# Altium schematic symbol library MinervaBots.SCHLIB: 191 symbols (part 2 of 2)
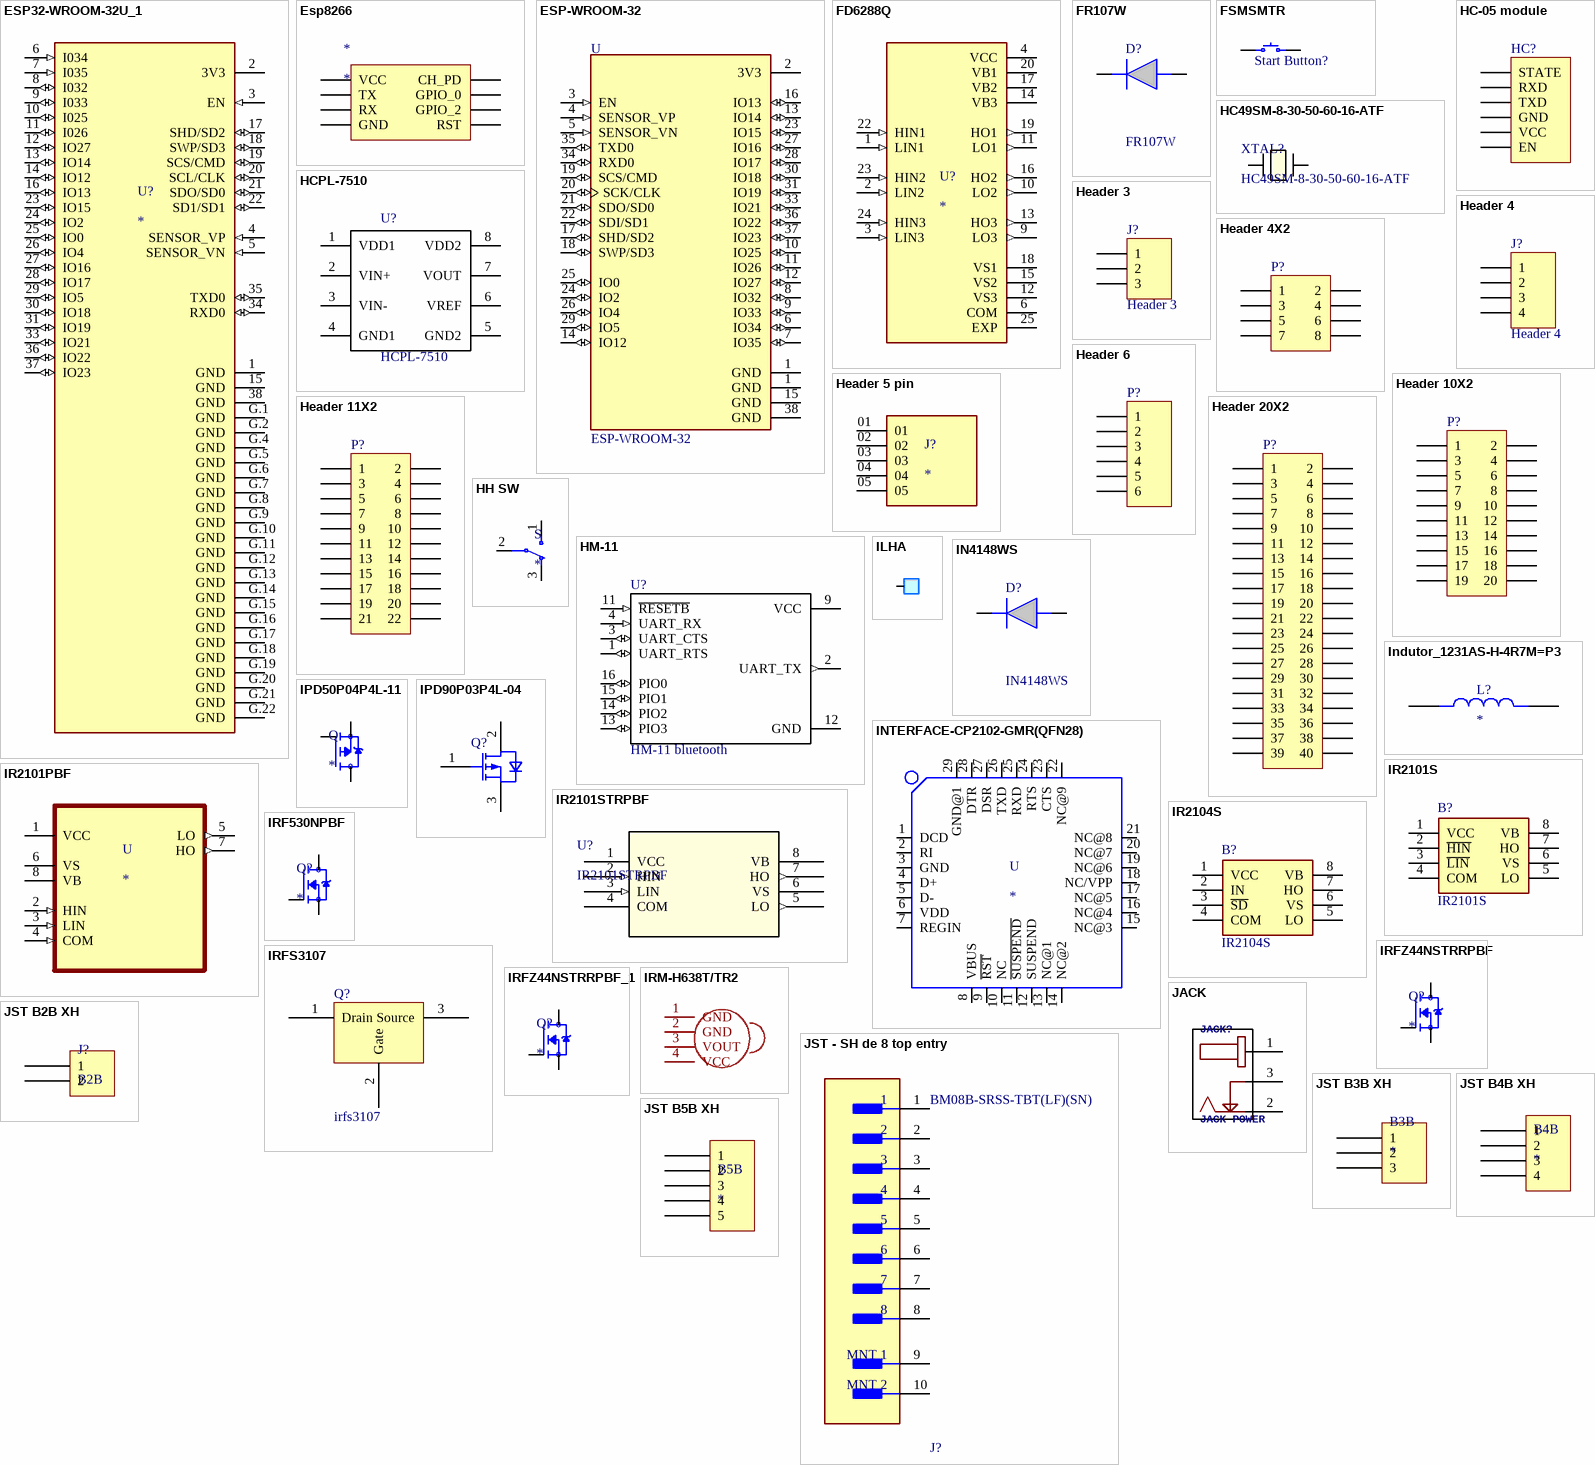
[diagram p7: symbols ESP32-WROOM-32U_1 to JST B5B XH]

## IPD50P04P4L-11
designator Q
P-Channel 40V 50A _Tc_ 58W _Tc_ Surface Mount PG-TO252-3-313; MF: Infineon Technologies; MP: IPD50P04P4L-11; Availability: Unavailable; SnapEDA_Link: https://www.snapeda.com/parts/IPD50P04P4L-11/Infineon%20Technologies/view-part/448110/?ref=snap; Value: *; Price: None; Package: TO-252-3 Infineon
footprint DPAK228P998X235-3N
pins: 1 G, 2 D, 3 S

## IPD90P03P4L-04
designator Q?  (value not drawn)
OptiMOS - P2 Power-Transistor, P-channel-Enhancement mode, VDS -30V; Manufacturer: Infineon Technologies; ManufacturerPartNumber: IPD90P03P4L-04; PackageReference: PG-TO252-3-11
footprint TO228P998X235-3N-2-V
pins: 1 GATE, 2 DRAIN, 3 SOURCE

## IR2101PBF
designator U
Floating channel designed for bootstrap operation | Fully operational to +600 V | Tolerant to negative transient voltage | dV/dt immune | Gate drive supply range from 10 to 20 V | Undervoltage lockout | 3.3 V, 5 V, and 15 V logic input compatible | Matched propagation delay for both channels | Outputs in phase with inputs _IR2101_ or out of phase with inputs _IR2102_; MF: Infineon; MP: IR2101PBF; Price: None; Availability: Unavailable; SnapEDA_Link: https://www.snapeda.com/parts/IR2101PBF/Infineon%20Technologies/view-part/576511/?ref=snap; Value: *; Package: DIP-8 Infineon
footprint DIP254P762X533-8
pins: 1 VCC (power), 2 HIN (in), 3 LIN (in), 4 COM (in), 5 LO (out), 6 VS (power), 7 HO (out), 8 VB (power)

## IR2101S
designator B?
IC GATE DRVR HALF-BRIDGE 8SOIC; Manufacturer_Name: Infineon; Geometry.Height: 1.75mm; Manufacturer_Part_Number: IR2101S; Mouser Part Number: *; Mouser Price/Stock: *; Arrow Part Number: *; Arrow Price/Stock: *; Datasheet Link: https://pdf1.alldatasheet.com/datasheet-pdf/view/102221/IRF/IR2101S.html
footprint SOIC127P600X175-8N
pins: 1 VCC, 2 ~{HIN}, 3 ~{LIN}, 4 COM, 5 LO, 6 VS, 7 HO, 8 VB

## IR2101STRPBF
designator U?
No Description Available; Mfr_Name: Infineon; Copyright: Copyright (C) 2024 Ultra Librarian. All rights reserved.; Manufacturer_Part_Number: IR2101STRPBF; RefDes: RefDes; Type: DEV
footprint SO8N_INF
pins: 1 VCC (power), 2 HIN (in), 3 LIN (in), 4 COM, 5 LO (out), 6 VS (power), 7 HO (out), 8 VB (power)

## IR2104S
designator B?
IC GATE DRVR HALF-BRIDGE 8SOIC; Manufacturer_Name: Infineon; Geometry.Height: 1.75mm; Manufacturer_Part_Number: IR2104S; Mouser Part Number: *; Mouser Price/Stock: *; Arrow Part Number: *; Arrow Price/Stock: *; Datasheet Link: http://www.infineon.com/dgdl/ir2104.pdf?fileId=5546d462533600a4015355c7c1c31671
footprint SOIC127P600X175-8N
pins: 1 VCC, 2 IN, 3 ~{SD}, 4 COM, 5 LO, 6 VS, 7 HO, 8 VB

## IRF530NPBF
designator Q?
RoHS Compliant | Low RDS(on) | Industry-leading quality | Dynamic dv/dt Rating | Fast Switching | Fully Avalanche Rated | 175C Operating Temperature; MF: Infineon Technologies; MP: IRF530NPBF; Purchase-URL: https://pricing.snapeda.com/search/part/IRF530NPBF/?ref=eda; Check_prices: https://www.snapeda.com/parts/IRF530NPBF/Infineon+Technologies/view-part/?ref=eda; SnapEDA_Link: https://www.snapeda.com/parts/IRF530NPBF/Infineon+Technologies/view-part/?ref=snap; Price: None; Availability: In Stock; Package: TO-220 Infineon; Value: *
footprint TO254P1041X444X1930-3 (Footprint not found)
pins: 1 G, 2 D, 3 S

## IRFS3107
designator Q?, comment irfs3107
MOSFET N-Channel
footprint D2PAK-7
pins: 1 Drain, 2 Gate, 3 Source

## IRFZ44NSTRRPBF
designator Q?
RoHS Compliant | Low RDS(on) | Industry-leading quality | Dynamic dv/dt Rating | Fast Switching | Fully Avalanche Rated | 175C Operating Temperature; MF: Infineon Technologies; MP: IRFZ44NSTRRPBF; Value: *; SnapEDA_Link: https://www.snapeda.com/parts/IRFZ44NSTRRPBF/Infineon+Technologies/view-part/?ref=snap; Availability: In Stock; Price: None; Check_prices: https://www.snapeda.com/parts/IRFZ44NSTRRPBF/Infineon+Technologies/view-part/?ref=eda; Purchase-URL: https://pricing.snapeda.com/search/part/IRFZ44NSTRRPBF/?ref=eda; Package: D2PAK Infineon
footprint DPAK254P1524X483-3N
pins: 1 G, 2 D, 3 S

## IRFZ44NSTRRPBF_1
designator Q?
RoHS Compliant | Low RDS(on) | Industry-leading quality | Dynamic dv/dt Rating | Fast Switching | Fully Avalanche Rated | 175C Operating Temperature; MF: Infineon Technologies; MP: IRFZ44NSTRRPBF; Value: *; SnapEDA_Link: https://www.snapeda.com/parts/IRFZ44NSTRRPBF/Infineon+Technologies/view-part/?ref=snap; Availability: In Stock; Price: None; Check_prices: https://www.snapeda.com/parts/IRFZ44NSTRRPBF/Infineon+Technologies/view-part/?ref=eda; Purchase-URL: https://pricing.snapeda.com/search/part/IRFZ44NSTRRPBF/?ref=eda; Package: D2PAK Infineon
footprint DPAK254P1524X483-3N
pins: 1 G, 2 D, 3 S

## IRM-H638T/TR2
designator CGQ?  (value not drawn)
Manufacturer: EVERLIGHT(亿光); Add into BOM: yes; Supply Voltage: 2.7V~5.5V; Supply Current: 1.2mA; Symbol: IRM-H638T/TR2; Device: IRM-H638T/TR2; LCSC Part Name: 45°@水平 45°@垂直; Supplier Part: C91447; Manufacturer Part: IRM-H638T/TR2; Supplier Footprint: SMD-4P,4x5mm; JLCPCB Part Class: Extended Part; Datasheet: https://atta.szlcsc.com/upload/public/pdf/source/20161219/1482143954829.pdf; Supplier: LCSC; Convert to PCB: yes; Transmission Distance: -; Center Frequency: -; Half Angle: -; Power Consumption: -; Operating Temperature: -25℃~+85℃
footprint IRM-H638T
pins: 1 GND, 2 GND, 3 VOUT, 4 VCC

## JACK
designator JACK?, comment JACK POWER
DC Power Receptacle Jack 5A 2.5mm 6.5mm Through Hole AC/DC Power Plugs & Receptacles RoHS; GateName_1: G$1; SymbolName_1: DCJ200-10-A-XX-X_REVA; MP: DCJ200-10-A-K1-K; MF: Global Connector Technology; LibraryName: DCJ200-10-A-XX-X_REVA; DeviceSetName: DCJ200-10-A-XX-X_REVA; Package: GCT_DCJ200-10-A-XX-X_REVA; Package: None; Availability: Warning; Price: None
footprint Jack 5A XKB DC-005-5A-2.5
pins: 1, 2, 3

## JST - SH de 8 top entry
designator J?, comment BM08B-SRSS-TBT(LF)(SN)
CONN HEADER SMD 8POS 1MM
footprint FP-BM08B-SRSS-TBT_LF_SN-MFG
pins: 1, 2, 3, 4, 5, 6, 7, 8, 9 MNT 1, 10 MNT 2

## JST B2B XH
designator J?, comment B2B
JST Sales America Connector, B2B-XH-AM(LF)(SN), 2 ways, LCSC Part = C161869
footprint JST B2B XH THT (JST Conector, 2 ways)
pins: 1, 2

## JST B3B XH
designator B3B
JST Sales America Connector, B3B-XH-AM(LF)(SN), 3 ways, LCSC Part = C161870
footprint JST B3B XH THT (Jst conector, 3 ways)
pins: 1, 2, 3

## JST B4B XH
designator B4B
JST Sales America Connector, B4B-XH-AM(LF)(SN), 4 ways, LCSC Part = C161871
footprint JST B4B XH THT (JST Conector, 4 ways)
pins: 1, 2, 3, 4

## JST B5B XH
designator B5B
JST Sales America Connector, B5B-XH-AM(LF)(SN), 5 ways, LCSC Part = C161872
footprint JST B5B XH THT (KK Conector, 5 ways)
pins: 1, 2, 3, 4, 5

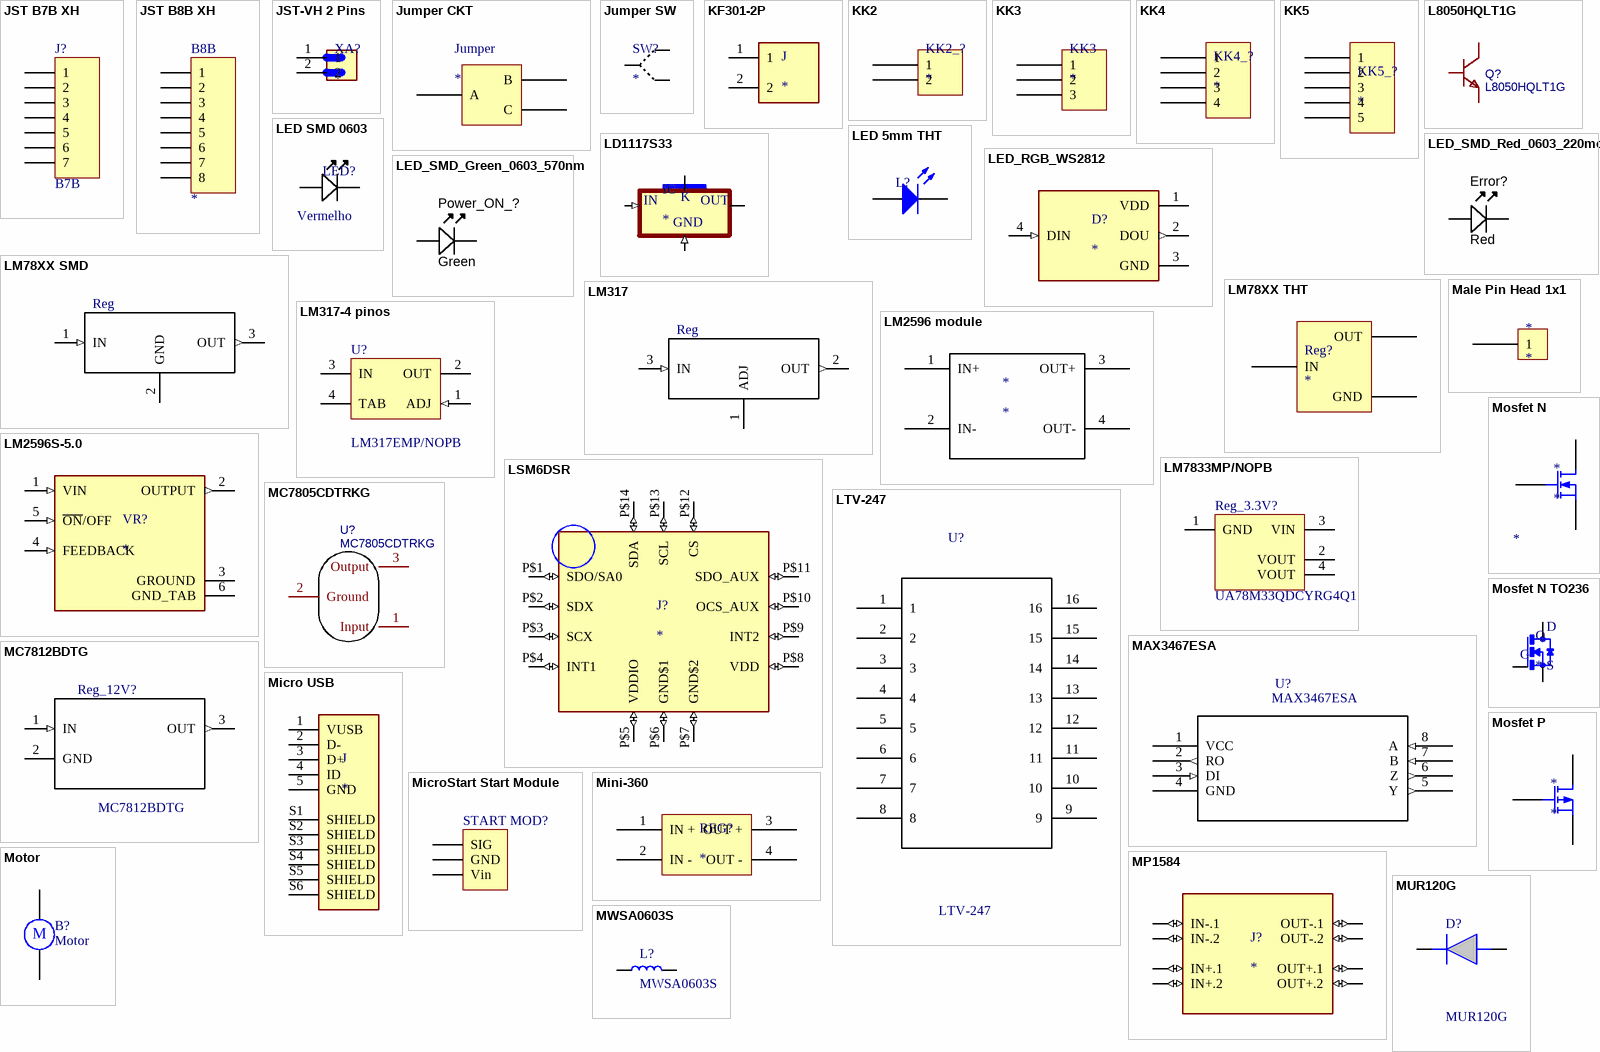
[diagram p4: symbols JST B7B XH to MWSA0603S]

## JST B7B XH
designator J?, comment B7B
JST Sales America Connector, B2B-XH-AM(LF)(SN), 7 ways, LCSC Part = C161874; LatestRevisionDate: 17-Jul-2002; LatestRevisionNote: Re-released for DXP Platform.; Publisher: Altium Limited
footprint JST B7B XH THT (Jst conector, 7 ways)
pins: 1, 2, 3, 4, 5, 6, 7

## JST B8B XH
designator B8B
JST Sales America Connector, B4B-XH-AM(LF)(SN), 4 ways, LCSC Part = C161875; LatestRevisionDate: 17-Jul-2002; LatestRevisionNote: Re-released for DXP Platform.; Publisher: Altium Limited
footprint JST B8B XH THT (JST conector, 8 ways)
pins: 1, 2, 3, 4, 5, 6, 7, 8

## JST-VH 2 Pins
designator XA?
Connector Header Through Hole 2 position 0.156 (3.96mm); MP: B2P-VH(LF)(SN); MF: JST Sales; Price: None; Availability: In Stock; Package: None; Value: *; SnapEDA_Link: https://www.snapeda.com/parts/B2P-VH(LF)(SN)/JST+Sales+America+Inc./view-part/?ref=snap; Purchase-URL: https://pricing.snapeda.com/search/part/B2P-VH(LF)(SN)/?ref=eda; Check_prices: https://www.snapeda.com/parts/B2P-VH(LF)(SN)/JST+Sales+America+Inc./view-part/?ref=eda
footprint JST_B2P-VH(LF)(SN)
footprint JST-VH 2 Pins
pins: 1, 2

## Jumper CKT
designator Jumper
Switch with jumper, 3 ways
footprint Jumper CKT
pins: 1 B, 2 A, 3 C

## Jumper SW
designator SW?
footprint Jumper SW
footprint Jumper CKT
pins: IN, OUT1, OUT2

## KF301-2P
designator J
2 Pin Terminal Block 5mm Pitch; MP: KF301-2P; MF: Handson Technology; Availability: Unavailable; Price: None; Value: *; SnapEDA_Link: https://www.snapeda.com/parts/KF301-2P/Handson%20Technology/view-part/4276957/?ref=snap; Package: Package
footprint HANDSON_KF301-2P
pins: 1, 2

## KK2
designator KK2_?
KK Connector, 2 ways
footprint KK2 (KK Conector, 2 ways)
pins: 1, 2

## KK3
designator KK3
KK Connector, 3 ways
footprint KK3 (KK Conector, 3 ways)
footprint KK3 90 (KK Conector, 3 ways, 90 degrees)
pins: 1, 2, 3

## KK4
designator KK4_?
KK Connector, 4 ways
footprint KK4
pins: 1, 2, 3, 4

## KK5
designator KK5_?
KK Connector, 5 ways
footprint KK5 (KK Conector, 5 ways)
pins: 1, 2, 3, 4, 5

## L8050HQLT1G
designator Q?
BOM_Manufacturer: LRC(乐山无线电); BOM_Supplier: LCSC; BOM_Manufacturer Part: L8050HQLT1G; BOM_Supplier Part: C39280; BOM_JLCPCB Part Class: Extended Part; spicePre: Q; spiceSymbolName: L8050HQLT1G
footprint SOT-23-3_L2.9-W1.6-P1.90-LS2.8-BR
pins: 1, 2, 3

## LD1117S33
designator IC
Linear Voltage Regulator IC 1 Output 800mA SOT-223; MP: LD1117S33; MF: STMicroelectronics; SnapEDA_Link: https://www.snapeda.com/parts/LD1117S33/STMicroelectronics/view-part/558863/?ref=snap; Availability: Unavailable; Price: None; Package: TO-261-4 STMicroelectronics; Value: *
footprint LD1117S33
pins: 1 GND (in), 2 OUT, 3 IN (in), 4 K

## LED 5mm THT
designator L?  (value not drawn)
Color: *
footprint LED THT
pins: 1 A, 2 K

## LED SMD 0603
designator LED?  Cor: Vermelho
Diodo emissor de luz SMD 0603
footprint LED SMD 0603 Vermelho (Footprint not found)
footprint LED SMD 0603 Verde (Footprint not found)
footprint LED SMD 0603 Azul (Footprint not found)
pins: A, K

## LED_RGB_WS2812
designator D?
5050 symphony LED SMD; MF: Xinglight; MP: XL-5050RGBC-WS2812B; SnapEDA_Link: https://www.snapeda.com/parts/XL-5050RGBC-WS2812B/Xinglight/view-part/?ref=snap; Package: Package; Value: *; Check_prices: https://www.snapeda.com/parts/XL-5050RGBC-WS2812B/Xinglight/view-part/?ref=eda
footprint LED_RGB_WS2812
pins: 1 VDD (power), 2 DOU (out), 3 GND (power), 4 DIN (in)

## LED_SMD_Green_0603_570nm
designator Power_ON_?, comment Green
LED 0603 SMD Green 570nm 50mcd 20mA; Manufacturer 1: Kingbright Company LLC; Manufacturer Part Number 1: APT1608CGCK; Ratings: 20mcd min; 50 mcd typ; 570 nm; Voltage - Forward (Vf) Typ: 2.1V; Viewing Angle: 120°; Lens Style/Size: Rectangle with Flat Top, 1.1mm x 0.8mm; Voltage - Forward (Vf) @ 10mA: 2.0V; SCDType: source; Wavelength - Peak: 574nm; Lens Type: Clear; Package / Case: 0603 (1608 metric); Material: AlGaInP; Color: Green; Current - Test: 20mA; Supplier 1: Digi-Key; Supplier Part Number 1: 754-1116-1-ND; RoHS 1: RoHS Compliant; Wavelength - Dominant: 570nm; ComponentLink1URL: http://www.us.kingbright.com/images/catalog/SPEC/APT1608CGCK.pdf; ComponentLink1Description: http://www.us.kingbright.com/images/catalog/SPEC/APT1608CGCK.pdf
footprint LED-0603-GREEN
pins: A, K

## LED_SMD_Red_0603_220mcd
designator Error?, comment Red
LED 0603 SMD Hyper Red 630nm 220mcd 20mA; Manufacturer 1: Kingbright Company LLC; Manufacturer Part Number 1: APT1608SURCK; Ratings: 220 mcd; 630 nm; Voltage - Forward (Vf) Typ: 1.95V; Voltage - Forward (Vf) @ 10mA: 1.9V; SCDType: source; Package / Case: 0603 (1608 metric); Material: AlGaInP on GaAs; Supplier 1: Digi-Key; Supplier Part Number 1: 754-1123-1-ND; ComponentLink1URL: http://www.us.kingbright.com/images/catalog/SPEC/APT1608SURCK.pdf; ComponentLink1Description: http://www.us.kingbright.com/images/catalog/SPEC/APT1608SURCK.pdf
footprint LED-0603-RED
pins: A, K

## LM78XX SMD
designator Reg
Voltage stabiliser; fixed; 5V; 1.5A; SMD; MP: L7805ACD2T; MF: STMicroelectronics; Package: D2PAK STMicroelectronics; Availability: Unavailable; Price: 0.81 USD; SnapEDA_Link: https://www.snapeda.com/parts/L7805ACD2T/STMicroelectronics/view-part/?ref=snap; Value: *
footprint VREG_TL431CPK
footprint VREG_L7805ACD2T
pins: 1 IN (in), 2 GND, 3 OUT (out)

## LM78XX THT
designator Reg?
Voltage stabiliser; fixed; 5V; 1.5A; THT
footprint TO-220 (TO-220 coupling)
pins: 1 IN, 2 GND, 3 OUT

## LM317
designator Reg
Voltage stabiliser; ajustable  1.2V ~ 37V; 1.5A; SMD; MP: L7805ACD2T; MF: STMicroelectronics; Package: D2PAK STMicroelectronics; Availability: Unavailable; Price: 0.81 USD; SnapEDA_Link: https://www.snapeda.com/parts/L7805ACD2T/STMicroelectronics/view-part/?ref=snap; Value: *
footprint TO-263
pins: 1 ADJ, 2 OUT (out), 3 IN (in)

## LM317-4 pinos
designator U?, comment LM317EMP/NOPB
3-Terminal Adjustable Regulator, 4-pin SOT-223, Pb-Free; Manufacturer: Texas Instruments; PowerWise: N; PackageTopMarking: XYTT*N01A; CompType: LDO IC; PackageDescription: Molded SOT-223, 6.50 x 3.56 x 1.6mm Body, 4 Lead, 2.3mm Pitch; Code_IPC: SOT223-4; ComponentLink1Description: Datasheet URL; Code_JEDEC: TO-261-AA; ComponentLink1URL: http://www.ti.com/general/docs/lit/getliterature.tsp?genericPartNumber=LM317-N&fileType=pdf; RoHS: Y; PinCount: 4; PackageReference: DCY0004A
footprint DCY0004A_M (SOT223, 4-Leads, Body 6.7x3.7mm, Pitch 2.3mm, IPC Low Density)
footprint DCY0004A_N (SOT223, 4-Leads, Body 6.7x3.7mm, Pitch 2.3mm, IPC Medium Density)
footprint DCY0004A_L (SOT223, 4-Leads, Body 6.7x3.7mm, Pitch 2.3mm, IPC High Density)
pins: 1 ADJ (in), 2 OUT (power), 3 IN (power), 4 TAB (power)

## LM2596 module
designator *
Step-down regulável
footprint LM2596 module
pins: 1 IN+, 2 IN-, 3 OUT+, 4 OUT-

## LM2596S-5.0
designator VR?
SIMPLE SWITCHER&reg; 4.5V to 40V, 3A Low Component Count Step-Down Regulator; MP: LM2596S-5.0/NOPB; MF: Texas Instruments; Price: None; Availability: In Stock; Package: TO-263-5 Texas Instruments; SnapEDA_Link: https://www.snapeda.com/parts/LM2596S-5.0/NOPB/Texas+Instruments/view-part/?ref=snap; Check_prices: https://www.snapeda.com/parts/LM2596S-5.0/NOPB/Texas+Instruments/view-part/?ref=eda; Value: *; Purchase-URL: https://pricing.snapeda.com/search/part/LM2596S-5.0/NOPB/?ref=eda
footprint TO170P1524X483-6N
footprint LM2596S5.0
pins: 1 VIN (in), 2 OUTPUT (out), 3 GROUND (power), 4 FEEDBACK (in), 5 ~{ON}/OFF (in), 6 GND_TAB (power)

## LM7833MP/NOPB
designator Reg_3.3V?, comment UA78M33QDCYRG4Q1
3.3V Regulator, 3-Pin SOT-223, Extended Temperature, Tape and Reel; Published: 29-Jan-2009; DatasheetVersion: revA, Aug-2007; PackageVersion: revBB, Aug-2009; PackageReference: SOT-223-DB3; Publisher: Altium Limited; PackageDescription: 3-Lead Plastic Small Outline Transistor (DB) [SOT-223]; Supplier 1: Digi-Key; Supplier Part Number 1: MCP1824ST-1202E/DBTR-ND; Supplier 2: Digi-Key; Supplier Part Number 2: MCP1824ST-1202E/DBCT-ND; Supplier 3: Digi-Key; Supplier Part Number 3: MCP1824ST-1202E/DBDKR-ND; Supplier 4: Farnell; Supplier Part Number 4: 1675417; ComponentLink1Description: Datasheet; ComponentLink1URL: http://ww1.microchip.com/downloads/en/DeviceDoc/22070a.pdf; ComponentLink2Description: Packaging Specification; ComponentLink2URL: http://www.microchip.com/stellent/groups/techpub_sg/documents/packagingspec/en012702.pdf; ComponentLink3Description: Microchip.com Home; ComponentLink3URL: http://www.microchip.com/
footprint SOT223 (SOT223, 4-Leads, Body 6.5x3.5mm, Pitch 2.3mm, Lead Span 7mm, IPC Low Density)
pins: 1 GND (power), 2 VOUT (power), 3 VIN (power), 4 VOUT (power)

## LSM6DSR
designator J?
Accelerometer, Gyroscope, Temperature, 6 Axis Sensor IÂ²C, SPI Output; MF: STMicroelectronics; MP: LSM6DSR; SnapEDA_Link: https://www.snapeda.com/parts/LSM6DSR/STMicroelectronics/view-part/?ref=snap; Package: None; Value: *; Check_prices: https://www.snapeda.com/parts/LSM6DSR/STMicroelectronics/view-part/?ref=eda
footprint LSM6DSR
pins: P$1 SDO/SA0 (io), P$2 SDX (io), P$3 SCX (io), P$4 INT1 (io), P$5 VDDIO (io), P$6 GND$1 (io), P$7 GND$2 (io), P$8 VDD (io), P$9 INT2 (io), P$10 OCS_AUX (io), P$11 SDO_AUX (io), P$12 CS (io), P$13 SCL (io), P$14 SDA (io)

## LTV-247
designator U?
A/D converter IC 12 Bit 4-channel SO-16N; MF: Linear Technology; MP: LTC1594CS#PBF; Package: SOIC-16 Linear Technology; Price: None; Availability: Unavailable; SnapEDA_Link: https://www.snapeda.com/parts/LTC1594CS%23PBF/Linear%20Technology/Analog%20Devices/view-part/?ref=snap; Value: *
footprint LTV-247
pins: 1, 2, 3, 4, 5, 6, 7, 8, 9, 10, 11, 12, 13, 14, 15, 16

## Male Pin Head 1x1
designator *
footprint HEADER 1X1 8.5MM
pins: 1

## MAX3467ESA
designator U?
Interface IC - transceivers Maxim Integrated MAX3467ESA+ RS422, RS485 1/1 SOIC 8 N; Package: SOIC Maxim Integrated; MP: MAX3467ESA+; MF: Maxim Integrated; Price: None; Availability: Unavailable; SnapEDA_Link: https://www.snapeda.com/parts/MAX3467ESA%2B/Maxim%20Integrated/view-part/?ref=snap; Value: *
footprint *21-0041B_8
pins: 1 VCC (power), 2 RO (out), 3 DI (in), 4 GND (power), 5 Y (out), 6 Z (out), 7 B (in), 8 A (in)

## MC7805CDTRKG
designator U?
BOM_Manufacturer: onsemi(安森美); BOM_Supplier: LCSC; BOM_Manufacturer Part: MC7805CDTRKG; BOM_Supplier Part: C54285; BOM_JLCPCB Part Class: Extended Part; spicePre: U; spiceSymbolName: MC7805CDTRKG
footprint TO-252-2_L6.6-W6.1-P4.58-LS9.9-TL
pins: 1 Input, 2 Ground, 3 Output

## MC7812BDTG
designator Reg_12V?
12v voltage regulator; MP: L78M05ACDT-TR; MF: STMicroelectronics; Availability: Good; Price: 0.26 USD; Package: TO-252-3 STMicroelectronics; SnapEDA_Link: https://www.snapeda.com/parts/L78M05ACDT-TR/STMicroelectronics/view-part/?ref=snap; Value: *
footprint TO225P972X240-3N
pins: 1 IN (in), 2 GND, 3 OUT (out)

## Micro USB
designator J
USB - micro B USB 2.0 Receptacle Connector 5 Position Surface Mount, Right Angle; Through Hole; MP: 10118193-0001LF; MF: Amphenol ICC; Availability: Unavailable; SnapEDA_Link: https://www.snapeda.com/parts/10118193-0001LF/Amphenol%20FCI/view-part/2758989/?ref=snap; Price: None; Value: *; Package: None
footprint Micro USB
pins: 1 VUSB, 2 D-, 3 D+, 4 ID, 5 GND, S1 SHIELD, S2 SHIELD, S3 SHIELD, S4 SHIELD, S5 SHIELD, S6 SHIELD

## MicroStart Start Module
designator START MOD?
Módulo Iniciar da Jsumo; LatestRevisionDate: 17-Jul-2002; LatestRevisionNote: Re-released for DXP Platform.; Publisher: Altium Limited
footprint MicroStart Start Module (Módulo Start da Jsumo)
footprint MicroStart Start Module - Com Borda (Módulo Start da Jsumo)
pins: 1 SIG, 2 GND (power), 3 Vin (power)

## Mini-360
designator REG?
Módulo Regulador de Tensão Step Down Buck DC-DC Mini 360 3A
footprint Mini-360 (Footprint not found)
footprint Mini-360 baixo
pins: 1 IN + (power), 2 IN - (power), 3 OUT + (power), 4 OUT - (power)

## Mosfet N
designator *
Model: *
footprint TO-220 (TO-220 coupling)
footprint TO-252-3
footprint TO-263
pins: 1 G, 2 D, 3 S

## Mosfet N TO236
designator Q
N-Channel 30V 2.2A _Ta_ 500mW _Ta_ Surface Mount SuperSOT-3; MF: ON Semiconductor; MP: FDN337N; SnapEDA_Link: https://www.snapeda.com/parts/FDN337N/ON%20Semiconductor/view-part/1365384/?ref=snap; Price: None; Availability: Unavailable; Value: *; Package: SC-59 ON Semiconductor
footprint TO-236
pins: 1 G, 2 S, 3 D

## Mosfet P
designator *
Model: *
footprint TO-220 (TO-220 coupling)
footprint TO-252-3
pins: 1 G, 2 D, 3 S

## Motor
designator B?
Motor, General Kind; Published: 24-Mar-1999; LatestRevisionDate: 17-Jul-2002; LatestRevisionNote: Re-released for DXP Platform.; PackageReference: RB5-10.5; Publisher: Altium Limited; PackageDescription: Capacitor (Radial); 2 Leads
footprint Motor
footprint Motor Crepe Suzette
pins: 1, 2
text: M

## MP1584
designator J?
Buck Switching Regulator IC Positive Adjustable 0.8V 1 Output 3A 8-SOIC (0.154, 3.90mm Width) Exposed Pad; MP: MP1584; MF: Monolithic Power; Availability: In Stock; SnapEDA_Link: https://www.snapeda.com/parts/MP1584/Monolithic+Power+Systems+Inc./view-part/?ref=snap; Price: None; Check_prices: https://www.snapeda.com/parts/MP1584/Monolithic+Power+Systems+Inc./view-part/?ref=eda; Package: SOIC-8 Monolithic Power; Purchase-URL: https://pricing.snapeda.com/search/part/MP1584/?ref=eda; Value: *
footprint MP1584_MODULE
pins: IN+.1 (io), IN+.2 (io), IN-.1 (io), IN-.2 (io), OUT+.1 (io), OUT+.2 (io), OUT-.1 (io), OUT-.2 (io)

## MUR120G
designator D?
ON SEMICONDUCTOR - MUR120G - DIODE, RECTIFIER, 200V, 1A, DO-41; Manufacturer_Name: onsemi; Manufacturer_Part_Number: MUR120G; Mouser Part Number: 863-MUR120G; Mouser Price/Stock: https://www.mouser.co.uk/ProductDetail/onsemi/MUR120G?qs=Gev%252BmEvV0iYVuhxlgz%252Blrg%3D%3D; Arrow Part Number: MUR120G; Arrow Price/Stock: https://www.arrow.com/en/products/mur120g/on-semiconductor?region=nac; Datasheet Link: http://www.onsemi.com/pub/Collateral/MUR120-D.PDF
footprint DIOAD1405W86L465D235
pins: 1 K, 2 A

## MWSA0603S
designator L?
Power Inductor SMD Sunlord MWSA0603S; Manufacturer Part Number: MWSA0603S-; Manufacturer: Sunlord
footprint MWSA0603S
pins: 1, 2

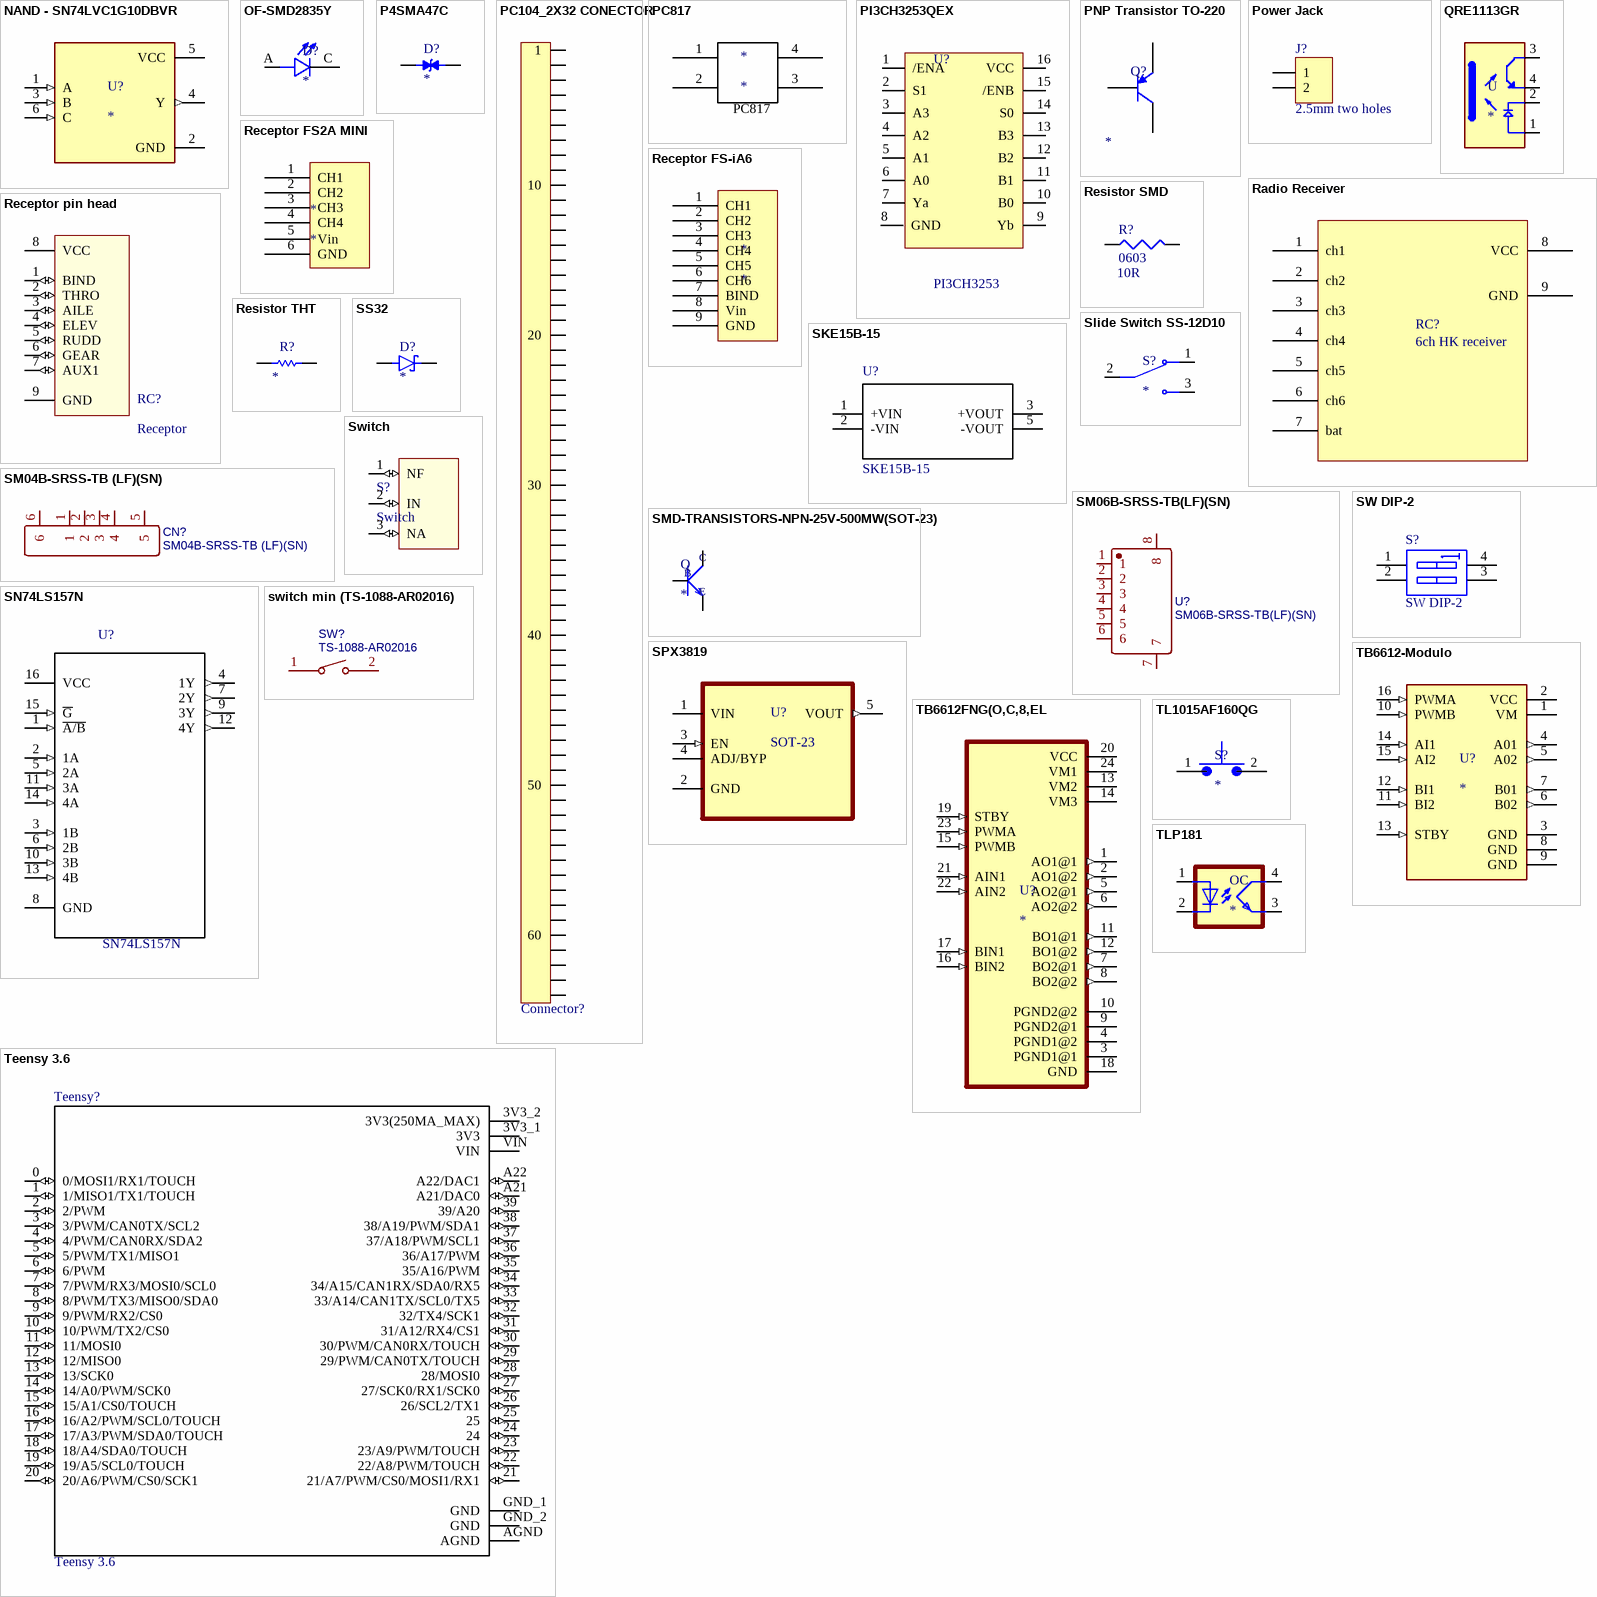
[diagram p5: symbols NAND - SN74LVC1G10DBVR to TLP181]

## NAND - SN74LVC1G10DBVR
designator U?
<a href="https://snapeda.com/parts/SN74LVC1G10DBVR/Texas%20Instruments/view-part/?ref=eda">Buy Part</a>; Package: None; Price: None; Value: *; MP: SN74LVC1G10DBVR; Availability: Unavailable
footprint SOT95P280X145-6N
footprint NAND - SOT95P280X145-6N
pins: 1 A (in), 2 GND (power), 3 B (in), 4 Y (out), 5 VCC (power), 6 C (in)

## OF-SMD2835Y
designator D?
LED; SMD; 2835, PLCC2; yellow; 2200-2800mcd; 2.8x3.5x0.75mm; 120Â°; MP: OF-SMD2835Y; Availability: Unavailable; Value: *; Package: None; Price: None
footprint LED_OF-SMD2835Y
pins: A, C

## P4SMA47C
designator D?
MP: P4SMA47C; Package: None; Price: None; Availability: Unavailable; Value: *
footprint DIOM4325X250N
footprint RCLAMP0521PATCT
pins: 1, 2

## PC104_2X32 CONECTOR
designator Connector?, comment Conector Padrão PC104 64 vias  (value not drawn)
footprint PC104_2X32
pins: 1, 2, 3, 4, 5, 6, 7, 8, 9, 10, 11, 12, 13, 14, 15, 16, 17, 18, 19, 20, 21, 22, 23, 24, 25, 26, 27, 28, 29, 30, 31, 32, 33, 34, 35, 36, 37, 38, 39, 40, 41, 42, 43, 44, 45, 46, 47, 48, 49, 50, 51, 52, 53, 54, 55, 56, 57, 58, 59, 60, 61, 62, 63, 64

## PC817
designator *
Optoacoplador
footprint PC817 (Footprint not found)
pins: 1, 2, 3, 4

## PI3CH3253QEX
designator U?, comment PI3CH3253
2X 4:1 MUX; ComponentLink1Description: Datasheet; ComponentLink1URL: https://br.mouser.com/datasheet/2/115/PI3CH3253-3418661.pdf
footprint PI3CH3253QEX
pins: 1 /ENA, 2 S1, 3 A3, 4 A2, 5 A1, 6 A0, 7 Ya, 8 GND, 9 Yb, 10 B0, 11 B1, 12 B2, 13 B3, 14 S0, 15 /ENB, 16 VCC

## PNP Transistor TO-220
designator Q?
Model: *
footprint TO-220 (TO-220 coupling)
pins: 1 E, 2 C, 3 B

## Power Jack
designator J?, comment 2.5mm two holes
WR-TBL Terminal Blocks Serie 2109 - 2.54 mm with Rising Cage Clamp; Manufacturer: Würth Elektronik eiSos GmbH; partNo: Power Jack; ComponentLink1 Description: Manufacturer; ComponentLink2 Description: Datasheet; NoPins: 2; Created Date: 8 Novenber 2013; ComponentLink1URL: http://www.we-online.com; ComponentLink2URL: http://katalog.we-online.de/em/datasheet/6912109100xx.pdf; Created by: Karrer Zheng
footprint Power Jack
pins: 1, 2

## QRE1113GR
designator U
Reflective Optical Sensor 0.197 _5mm_ 4-SMD, Gull Wing; MP: QRE1113GR; MF: ON Semiconductor; Availability: Unavailable; Package: SMD-4 ON Semiconductor; SnapEDA_Link: https://www.snapeda.com/parts/QRE1113GR/ON%20Semiconductor/view-part/1665429/?ref=snap; Price: None; Value: *
footprint QRE1113GR
pins: 1 A (power), 2 C (power), 3 CT (io), 4 ET (power)

## Radio Receiver
designator RC?, comment 6ch HK receiver
Receptor RC
footprint RADIO RECEIVER
footprint Radio Receiver Futaba
pins: 1 ch1, 2 ch2, 3 ch3, 4 ch4, 5 ch5, 6 ch6, 7 bat, 8 VCC, 9 GND

## Receptor FS2A MINI
designator *
footprint RECEPTOR FS2A MINI
pins: 1 CH1, 2 CH2, 3 CH3, 4 CH4, 5 Vin, 6 GND (power)

## Receptor FS-iA6
designator *
footprint Receptor FS-iA6
pins: 1 CH1, 2 CH2, 3 CH3, 4 CH4, 5 CH5, 6 CH6, 7 BIND, 8 Vin, 9 GND (power)

## Receptor pin head
designator RC?, comment Receptor
footprint Radio Receiver
pins: 1 BIND (io), 2 THRO (io), 3 AILE (io), 4 ELEV (io), 5 RUDD (io), 6 GEAR (io), 7 AUX1 (io), 8 VCC (power), 9 GND (power)

## Resistor SMD
designator R?  value 10R  Size: 0603  (hidden comment: *)
Resistor SMD com os tamanhos 0603, 0805, 1206 e 1210
footprint Resistor SMD 0603 (Footprint not found)
footprint Resistor SMD 0805 (Footprint not found)
footprint Resistor SMD 1206 (Footprint not found)
footprint Resistor SMD 1210 (Footprint not found)
pins: 1, 2

## Resistor THT
designator R?
Value: *
footprint RESISTOR THT 5mm
pins: 1, 2

## SKE15B-15
designator U?
dc-dc isolated, 5 W, 5V, 1 A, DIP, ext temp; MP: AE5-EW-S5; MF: CUI; CUI_purchase_URL: https://www.cui.com/product/power/dc-dc-converters/isolated/board-mount/5-w/ae5-ew-series?utm_source=snapeda.com&utm_medium=referral&utm_campaign=snapedaBOM; Package: DIP-5 CUI; Price: None; Availability: Unavailable; SnapEDA_Link: https://www.snapeda.com/parts/AE5-EW-S5/CUI%20Inc./view-part/?ref=snap; Value: *
footprint SKE15B-15
pins: 1 +VIN (power), 2 -VIN (power), 3 +VOUT (power), 5 -VOUT (power)

## Slide Switch SS-12D10
designator S?
Slide Swith SS-12D10; MP: 100SP1T1B4M2QE; Value: *; Availability: Unavailable; Price: None; Package: None
footprint Slide Switch SS-12D10
pins: 1, 2, 3

## SM04B-SRSS-TB (LF)(SN)
designator CN?
Manufacturer: JST; Contributor: LCSC; Supplier: LCSC; Supplier Part: C160404; Manufacturer Part: SM04B-SRSS-TB(LF)(SN); JLCPCB Part Class: Extended Part; spicePre: C; spiceSymbolName: SM04B-SRSS-TB (LF)(SN)
footprint CONN-SMD_4P-P1.00_SM04B-SRSS-TB-LF-SN
pins: 1, 2, 3, 4, 5, 6

## SM06B-SRSS-TB(LF)(SN)
designator U?
Manufacturer: JST; Contributor: LCSC; Supplier: LCSC; Supplier Part: C160405; Manufacturer Part: SM06B-SRSS-TB(LF)(SN); JLCPCB Part Class: Extended Part; spicePre: U; spiceSymbolName: SM06B-SRSS-TB(LF)(SN)
footprint CONN-SMD_SM06B-SRSS-TB-LF-SN
pins: 1, 2, 3, 4, 5, 6, 7, 8

## SMD-TRANSISTORS-NPN-25V-500MW(SOT-23)
designator Q
Isolated Module DC DC Converter 1 Output 5V 200mA 4.5V - 5.5V Input; MP: S8050; MF: Recom Power; Package: SOT-23 Micro Commercial; Availability: Unavailable; Value: *; SnapEDA_Link: https://www.snapeda.com/parts/S8050/Recom%20Power/view-part/680890/?ref=snap; Price: None
footprint SOT-23
pins: 1 B, 2 E, 3 C

## SN74LS157N
designator U?
IC Quad 2-1 L Data/sel 16PI; MF: Texas Instruments; Package: PDIP-16 Motorola; Digi-Key_Purchase_URL: https://www.digikey.com.br/product-detail/en/texas-instruments/SN74LS157N/296-1645-5-ND/277291?utm_source=snapeda&utm_medium=aggregator&utm_campaign=symbol; Digi-Key_Part_Number: 296-1645-5-ND; SnapEDA_Link: https://www.snapeda.com/parts/SN74LS157N/Texas%20Instruments/view-part/?ref=snap; MP: SN74LS157N; Value: *
footprint SOP16
pins: 1 ~{A/B} (in), 2 1A (in), 3 1B (in), 4 1Y (out), 5 2A (in), 6 2B (in), 7 2Y (out), 8 GND, 9 3Y (out), 10 3B (in), 11 3A (in), 12 4Y (out), 13 4B (in), 14 4A (in), 15 ~{G} (in), 16 VCC (power)

## SPX3819
designator U?, comment SOT-23
Linear Voltage Regulator IC 1 Output 500mA SOT-23-5; MP: SPX3819M5-L-1-8/TR; MF: MaxLinear, Inc.; SnapEDA_Link: https://www.snapeda.com/parts/SPX3819M5-L-1-8/TR/MaxLinear,%20Inc./view-part/35650/?ref=snap; Availability: Good; Check_prices: https://www.snapeda.com/parts/SPX3819M5-L-1-8/TR/MaxLinear,%20Inc./view-part/35650/?ref=eda; Purchase-URL: https://pricing.snapeda.com/search/part/SPX3819M5-L-1-8/TR/?ref=eda; Package: SOT-23-5 Exar; Price: None; Value: *
footprint SOT95P280X145-5N
pins: 1 VIN (power), 2 GND, 3 EN (in), 4 ADJ/BYP, 5 VOUT (out)

## SS32
designator D?
3A, 20V, Schottky Rectifier; MF: Taiwan Semiconductor; MP: SS32; SnapEDA_Link: https://www.snapeda.com/parts/SS32/Taiwan+Semiconductor/view-part/?ref=snap; Package: DO-214AB-2 Taiwan Semiconductor; Value: *; Check_prices: https://www.snapeda.com/parts/SS32/Taiwan+Semiconductor/view-part/?ref=eda
footprint DIO_SS32
pins: A, C K

## SW DIP-2
designator S?
DIP Switch, 2 Position, SPST; Published: 24-Mar-1999; LatestRevisionDate: 17-Jul-2002; LatestRevisionNote: Re-released for DXP Platform.; PackageReference: DIP-4; Publisher: Altium Limited
footprint DIP-4 (DIP; 4 Leads; Row Spacing 7.62 mm; Pitch 2.54 mm)
simulation model dpsw2 (Spice Subcircuit)
pins: 1 A1, 2 A2, 3 B2, 4 B1

## Switch
designator S?
footprint Switch (Switch biestable 3 pins)
footprint SWITCH COM 3D (Switch biestable 3 pins)
pins: 1 NF (io) "OFF", 2 IN (io) "Input", 3 NA (io) "ON"

## switch min (TS-1088-AR02016)
designator SW?, comment TS-1088-AR02016
Manufacturer: XUNPU(讯普); Contributor: LCSC; Supplier: LCSC; Supplier Part: C720477; Manufacturer Part: TS-1088-AR02016; JLCPCB Part Class: Extended Part; spicePre: S; spiceSymbolName: TS-1088-AR02016
footprint SW-SMD_L3.9-W3.0-P4.45
pins: 1, 2

## TB6612-Modulo
designator U?
TB6612FNG Motor Controller/Driver Power Management Evaluation Board; MP: ROB-14450; MF: SparkFun Electronics; Check_prices: https://www.snapeda.com/parts/ROB-14450/SparkFun%20Electronics/view-part/2656367/?ref=eda; Package: None; Value: *; Availability: In Stock; SnapEDA_Link: https://www.snapeda.com/parts/ROB-14450/SparkFun%20Electronics/view-part/2656367/?ref=snap; Price: None
footprint MODULE_ROB-14450
footprint TB6612-Modulo
pins: 1 VM (power), 2 VCC (power), 3 GND (power), 4 A01 (out), 5 A02 (out), 6 B02 (out), 7 B01 (out), 8 GND (power), 9 GND (power), 10 PWMB (in), 11 BI2 (in), 12 BI1 (in), 13 STBY (in), 14 AI1 (in), 15 AI2 (in), 16 PWMA (in)

## TB6612FNG(O,C,8,EL
designator U?
DC Motor Driver 3V 24-Pin SSOP T/R; MF: Toshiba; MP: TB6612FNG(O,C,8,EL; Check_prices: https://www.snapeda.com/parts/TB6612FNG(O,C,8,EL/Toshiba/view-part/?ref=eda; Package: SSOP-24 Toshiba; Availability: Not in stock; Value: *; SnapEDA_Link: https://www.snapeda.com/parts/TB6612FNG(O,C,8,EL/Toshiba/view-part/?ref=snap; Price: None
footprint SOP65P760X160-24N
pins: 1 AO1@1 (out), 2 AO1@2 (out), 3 PGND1@1, 4 PGND1@2, 5 AO2@1 (out), 6 AO2@2 (out), 7 BO2@1 (out), 8 BO2@2 (out), 9 PGND2@1, 10 PGND2@2, 11 BO1@1 (out), 12 BO1@2 (out), 13 VM2 (power), 14 VM3 (power), 15 PWMB (in), 16 BIN2 (in), 17 BIN1 (in), 18 GND, 19 STBY (in), 20 VCC (power), 21 AIN1 (in), 22 AIN2 (in), 23 PWMA (in), 24 VM1 (power)

## Teensy 3.6
designator Teensy?
Teensy 3.6 _Headers_; MP: DEV-14058; MF: SparkFun Electronics; Availability: Good; SnapEDA_Link: https://www.snapeda.com/parts/DEV-14058/SparkFun%20Electronics/view-part/?ref=snap; Price: 37.00 USD; Package: None; Value: *
footprint Teensy
pins: 0 0/MOSI1/RX1/TOUCH (io), 1 1/MISO1/TX1/TOUCH (io), 2 2/PWM (io), 3 3/PWM/CAN0TX/SCL2 (io), 3V3_1 3V3 (power), 3V3_2 3V3(250MA_MAX) (power), 4 4/PWM/CAN0RX/SDA2 (io), 5 5/PWM/TX1/MISO1 (io), 6 6/PWM (io), 7 7/PWM/RX3/MOSI0/SCL0 (io), 8 8/PWM/TX3/MISO0/SDA0 (io), 9 9/PWM/RX2/CS0 (io), 10 10/PWM/TX2/CS0 (io), 11 11/MOSI0 (io), 12 12/MISO0 (io), 13 13/SCK0 (io), 14 14/A0/PWM/SCK0 (io), 15 15/A1/CS0/TOUCH (io), 16 16/A2/PWM/SCL0/TOUCH (io), 17 17/A3/PWM/SDA0/TOUCH (io), 18 18/A4/SDA0/TOUCH (io), 19 19/A5/SCL0/TOUCH (io), 20 20/A6/PWM/CS0/SCK1 (io), 21 21/A7/PWM/CS0/MOSI1/RX1 (io), 22 22/A8/PWM/TOUCH (io), 23 23/A9/PWM/TOUCH (io), 24 (io), 25 (io), 26 26/SCL2/TX1 (io), 27 27/SCK0/RX1/SCK0 (io), 28 28/MOSI0 (io), 29 29/PWM/CAN0TX/TOUCH (io), 30 30/PWM/CAN0RX/TOUCH (io), 31 31/A12/RX4/CS1 (io), 32 32/TX4/SCK1 (io), 33 33/A14/CAN1TX/SCL0/TX5 (io), 34 34/A15/CAN1RX/SDA0/RX5 (io), 35 35/A16/PWM (io), 36 36/A17/PWM (io), 37 37/A18/PWM/SCL1 (io), 38 38/A19/PWM/SDA1 (io), 39 39/A20 (io), A21 A21/DAC0 (io), A22 A22/DAC1 (io), AGND (power), GND_1 GND (power), GND_2 GND (power), VIN (power)

## TL1015AF160QG
designator S?
Tactile Switch SPST-NO Top Actuated Surface Mount; MP: TL1015AF160QG; Package: None; Availability: Unavailable; Value: *; Price: None
footprint Botão_ESP (Footprint not found)
pins: 1, 2

## TLP181
designator OC
Optoisolator Transistor Output 3750Vrms 1 Channel 6-MFSOP, 4 Lead; MF: Toshiba Semiconductor; MP: TLP181; Price: None; Value: *; Package: SOP-4 Toshiba; Availability: Unavailable; SnapEDA_Link: https://www.snapeda.com/parts/TLP181/Toshiba%20Semiconductor%20and%20Storage/view-part/156745/?ref=snap
footprint SO-4 (Footprint not found)
pins: 1 A, 2 C, 3 EMIT, 4 COL

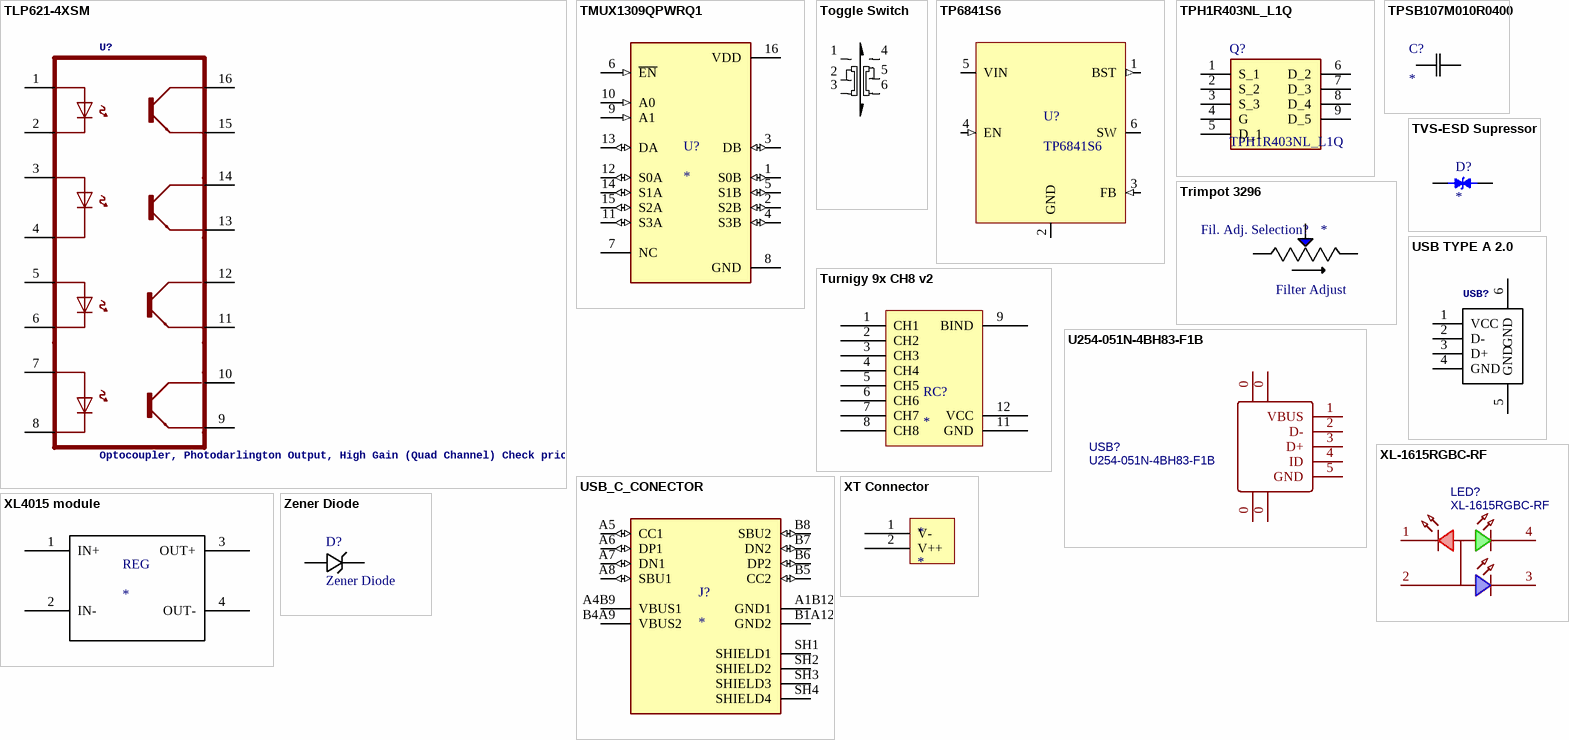
[diagram p6: symbols TLP621-4XSM to Zener Diode]

## TLP621-4XSM
designator U?, comment Optocoupler, Photodarlington Output, High Gain (Quad Channel) Check prices
Optoacoplador quadruplo; GateName_1: G$1; SymbolName_1: ILQ32-X009T; MP: ILQ32-X009; MF: Vishay Semiconductor; LibraryName: ILQ32-X009T; DeviceSetName: ILQ32-X009T; Package: SOIC254P1005X380-16N; Package: SMD-16 Vishay; Purchase-URL: https://pricing.snapeda.com/search/part/ILQ32-X009/?ref=eda; Price: None; Availability: Warning
footprint SMD-16
pins: 1, 2, 3, 4, 5 5., 6 6., 7 7., 8 8., 9 9., 10, 11, 12, 13, 14, 15, 16

## TMUX1309QPWRQ1
designator U?
Automotive 5-V, 4:1, two-channel multiplexer with injection control and 1.8-V logic; MF: Texas Instruments; MP: TMUX1309QPWRQ1; SnapEDA_Link: https://www.snapeda.com/parts/TMUX1309QPWRQ1/Texas+Instruments/view-part/?ref=snap; Package: TSSOP-16 Texas Instruments; Value: *; Check_prices: https://www.snapeda.com/parts/TMUX1309QPWRQ1/Texas+Instruments/view-part/?ref=eda
footprint TMUX1309QPWRQ1
pins: 1 S0B (io), 2 S2B (io), 3 DB (io), 4 S3B (io), 5 S1B (io), 6 ~{EN} (in), 7 NC, 8 GND (power), 9 A1 (in), 10 A0 (in), 11 S3A (io), 12 S0A (io), 13 DA (io), 14 S1A (io), 15 S2A (io), 16 VDD (power)

## Toggle Switch
designator ?
Toggle Switch de 2 polos e 2 posições; Published: 24-Mar-1999; LatestRevisionDate: 17-Dec-2003; LatestRevisionNote: Schematic revised, PCB Footprint replaced.; DatasheetVersion: 05-Dec-2000; PackageReference: TL36WW15050; Publisher: Altium Limited; PackageDescription: Switch; 4 Leads; ComponentLink1Description: Manufacturer Link; ComponentLink1URL: http://www.apem.com
footprint Toggle Switch  SSSS820101 (Switch biestable 3 pins)
pins: 1, 2 C "É o pino comum, sempre ativo", 3, 4, 5 C "É o pino comum, sempre ativo", 6

## TP6841S6
designator U?
40V 0.8A 800kHz Synchronous Step-Down Converter; Manufacturer: TECH PUBLIC; Manufacturer Part Number: TP6841S6
footprint SOT-23-6
pins: 1 BST (out), 2 GND (power), 3 FB (in), 4 EN (in), 5 VIN (power), 6 SW (power)

## TPH1R403NL_L1Q
designator Q?
MOSFET X35PBF Power MOSFET Trans VGS4.5VVDS30V; Manufacturer_Name: Toshiba; Manufacturer_Part_Number: TPH1R403NL,L1Q; Geometry.Height: 1mm; Mouser Part Number: 757-TPH1R403NLL1Q; Mouser Price/Stock: https://www.mouser.co.uk/ProductDetail/Toshiba/TPH1R403NLL1Q?qs=HVbQlW5zcXWxPmEVdb2K1w%3D%3D; Arrow Part Number: TPH1R403NL,L1Q; Arrow Price/Stock: https://www.arrow.com/en/products/tph1r403nll1q/toshiba?region=nac; Datasheet Link: https://www.arrow.com/en/products/tph1r403nll1q/toshiba
footprint TPH1R403NLL1Q
pins: 1 S_1, 2 S_2, 3 S_3, 4 G, 5 D_1, 6 D_2, 7 D_3, 8 D_4, 9 D_5

## TPSB107M010R0400
designator C?
No Description Available; Mfr_Name: KYOCERA AVX; Type: Tantalum Capacitors; Digi-Key_Part_Number_3: 478-5231-6-ND; Digi-Key_Part_Number_2: 478-5231-1-ND; Digi-Key_Part_Number_1: 478-5231-2-ND
footprint CAP_TPSB107_KAV
pins: 1, 2

## Trimpot 3296
designator Fil. Adj. Selection?, comment Filter Adjust
Trimpot 25 Ohm 3/8 Sq Cer Mt; MF: Bourns; MP: 3296W-1-250; Price: None; Availability: Unavailable; Package: SOT-23-5 Bourns; SnapEDA_Link: https://www.snapeda.com/parts/3296W-1-250/Bourns/view-part/?ref=snap; Value: *
footprint Trimpot 3296W
pins: 1 CCW, 2 WIPER, 3 CW

## Turnigy 9x CH8 v2
designator RC?
footprint Turnigy 9X 8CH v2 (Footprint not found)
pins: 1 CH1, 2 CH2, 3 CH3, 4 CH4, 5 CH5, 6 CH6, 7 CH7, 8 CH8, 9 BIND, 11 GND, 12 VCC

## TVS-ESD Supressor
designator D?
Transient Voltage Suppressors for ESD Protection; MP: LESD5D5.0CT1G; MF: Leshan Radio Co.; Value: *; SnapEDA_Link: https://www.snapeda.com/parts/LESD5D5.0CT1G/Leshan+Radio+Co./view-part/?ref=snap; Check_prices: https://www.snapeda.com/parts/LESD5D5.0CT1G/Leshan+Radio+Co./view-part/?ref=eda; Availability: Not in stock; Price: None; Package: None
footprint TVS-ESD Supressor
pins: 1, 2

## U254-051N-4BH83-F1B
designator USB?
BOM_Manufacturer: XKB Connectivity(中国星坤); Contributor: LCSC; BOM_Supplier: LCSC; BOM_Supplier Part: C319169; BOM_Manufacturer Part: U254-051N-4BH83-F1B; BOM_JLCPCB Part Class: Extended Part; spicePre: U; spiceSymbolName: U254-051N-4BH83-F1B
footprint MICRO-USB-SMD_U254-051N-4BH83-F1B
pins: 0, 0, 0, 0, 1 VBUS, 2 D-, 3 D+, 4 ID, 5 GND

## USB TYPE A 2.0
designator USB?
USB 2.0 Receptacle, Type A,Through Hole, Horizontal, Top Mount, Without Flange  Check prices; GateName_1: G$1; SymbolName_1: USB1125-GF-B_REVA; MF: Global Connector Technology; MP: USB1125-GF-B; LibraryName: USB1125-GF-B_REVA; DeviceSetName: USB1125-GF-B_REVA; Package: GCT_USB1125-GF-B_REVA; Price: None; Availability: Warning; Package: Package
footprint USB
pins: 1 VCC (power), 2 D-, 3 D+, 4 GND (power), 5 GND (power), 6 GND (power)

## USB_C_CONECTOR
designator J?
USB Type C - Connector, Top-mount SMT, 16pos | Molex Incorporated 217179-0001; SnapEDA_Link: https://www.snapeda.com/parts/217179-0001/Molex/view-part/?ref=snap; Package: None; Value: *; MF: Molex; MP: 217179-0001; Check_prices: https://www.snapeda.com/parts/217179-0001/Molex/view-part/?ref=eda
footprint MOLEX_2171790001
footprint USB_C_CONECTOR
pins: A1B12 GND1 (power), A4B9 VBUS1 (power), A5 CC1 (io), A6 DP1 (io), A7 DN1 (io), A8 SBU1 (io), B1A12 GND2 (power), B4A9 VBUS2 (power), B5 CC2 (io), B6 DP2 (io), B7 DN2 (io), B8 SBU2 (io), SH1 SHIELD1, SH2 SHIELD2, SH3 SHIELD3, SH4 SHIELD4

## XL4015 module
designator REG
Step-down regulável 5A
footprint XL4015 MODULE
pins: 1 IN+, 2 IN-, 3 OUT+, 4 OUT-

## XL-1615RGBC-RF
designator LED?
Manufacturer: XINGLIGHT(成兴光); Contributor: LCSC; Supplier: LCSC; Supplier Part: C965840; Manufacturer Part: XL-1615RGBC-RF; JLCPCB Part Class: Extended Part; spicePre: L; spiceSymbolName: XL-1615RGBC-RF
footprint LED-ARRAY-SMD_4P-L1.6-W1.5-BR_XL-1615RGBC-RF
pins: 1 R-, 2 COM+, 3 B-, 4 G-

## XT Connector
designator *
footprint XT90
footprint XT60
footprint XT30
pins: 1 V-, 2 V++

## Zener Diode
designator D?
Diode Zener 10.6V 375 mW AEC-Q101
footprint SOD123 (SOD-123; 2 Leads; Body 2.7 x 1.6 mm, (LxW))
pins: A, K